# EAGLE library part SI7051-A20-IMR (library SI7051-A20-IMR)
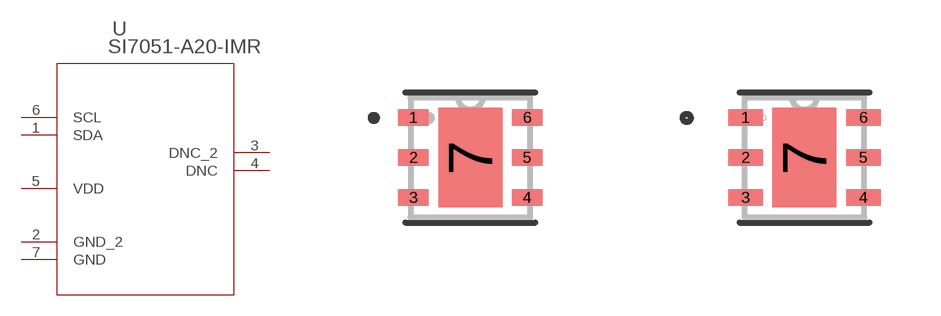
[diagram p0: symbol with the pads of DFN6_SIL; footprints DFN6_SIL, DFN6_SIL-M]

Designator prefix U

## SI7051-A20-IMR (BUILT_BY: EMA_Cory; COPYRIGHT: Copyright (C) 2018 Accelerated Designs. All rights reserved; DATASHEET: https://www.silabs.com/documents/public/data-sheets/Si7050-1-3-4-5-A20.pdf; MANUFACTURER_PART_NUMBER: SI7051-A20-IMR; SOURCELIBRARY: Silicon_Labs_2020-04-03; VENDOR: Silicon Labs)  [DFN6_SIL]
1  SDA  pas
2  GND_2  pas
3  DNC_2  nc
4  DNC  nc
5  VDD  pwr
6  SCL  pas
7  GND  pas

## SI7051-A20-IMRDFN6_SIL-M (BUILT_BY: EMA_Cory; COPYRIGHT: Copyright (C) 2018 Accelerated Designs. All rights reserved; DATASHEET: https://www.silabs.com/documents/public/data-sheets/Si7050-1-3-4-5-A20.pdf; MANUFACTURER_PART_NUMBER: SI7051-A20-IMR; SOURCELIBRARY: Silicon_Labs_2020-04-03; VENDOR: Silicon Labs)  [DFN6_SIL-M]
Pads as for DFN6_SIL

## SI7051-A20-IMRDFN6_SIL-L (BUILT_BY: EMA_Cory; COPYRIGHT: Copyright (C) 2018 Accelerated Designs. All rights reserved; DATASHEET: https://www.silabs.com/documents/public/data-sheets/Si7050-1-3-4-5-A20.pdf; MANUFACTURER_PART_NUMBER: SI7051-A20-IMR; SOURCELIBRARY: Silicon_Labs_2020-04-03; VENDOR: Silicon Labs)  [DFN6_SIL-L]
Pads as for DFN6_SIL

## Footprint DFN6_SIL (pad centres in mm)
smd 0.762 x 0.406: 1 -1.422,1; 2 -1.422,0; 3 -1.422,-1; 4 1.422,-1; 5 1.422,0; 6 1.422,1
smd 1.6 x 2.489: 7 0,0

## Footprint DFN6_SIL-M (pad centres in mm)
smd 0.864 x 0.406: 1 -1.473,1; 2 -1.473,0; 3 -1.473,-1; 4 1.473,-1; 5 1.473,0; 6 1.473,1
smd 1.6 x 2.489: 7 0,0

## Footprint DFN6_SIL-L (pad centres in mm)
smd 0.66 x 0.406: 1 -1.372,1; 2 -1.372,0; 3 -1.372,-1; 4 1.372,-1; 5 1.372,0; 6 1.372,1
smd 1.6 x 2.489: 7 0,0